# Altium schematic symbol library Рositioning_elements.SchLib: 3 symbols
Pins are listed as number, name and electrical type; pins without a type are passive.

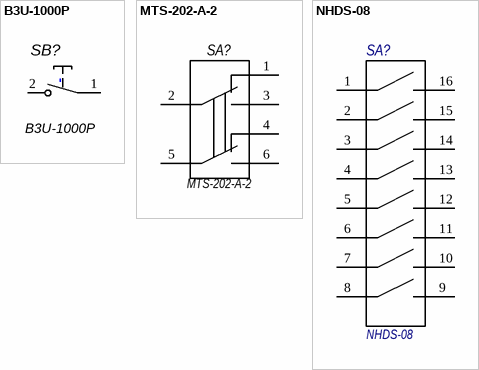
[diagram p0: symbols B3U-1000P to NHDS-08]

## B3U-1000P
designator SB?
Ultra-Small 2-pole Non-Fixed Push-Button; Manufacturer: Omron; Device: Кнопка; Purpose: ""; Order: B3U-1000P; Footprint: B3U-1000P; Type: B3U-1000P
footprint B3U-1000P (Микроминиатюрный переключатель)
pins: 1, 2

## MTS-202-A-2
designator SA?  Type: MTS-202-A-2  (hidden comment: *)
DPDT Switch
footprint MTS-202-A2
pins: 1, 2, 3, 4, 5, 6

## NHDS-08
designator SA?  (value not drawn)
NHDS-08; Type: NHDS-08
footprint NHDS-08
pins: 1, 2, 3, 4, 5, 6, 7, 8, 9, 10, 11, 12, 13, 14, 15, 16